# EAGLE library part 5747846 (library Connector_D-Sub)
D-SUB, 25POS, RCPT, R/A SLDR Datasheet <https://www.te.com/commerce/DocumentDelivery/DDEController?Action=showdoc&DocId=Catalog+Section%7F82068_AMPLIMITE_Right-Angle_Posted_Conn%7F0412%7Fpdf%7FEnglish%7FENG_CS_82068_AMPLIMITE_Right-Angle_Posted_Conn_0412.pdf%7F5747846-4> Drawing <https://www.te.com/commerce/DocumentDelivery/DDEController?Action=showdoc&DocId=Customer+Drawing%7F5747846%7FP%7Fpdf%7FEnglish%7FENG_CD_5747846_P.pdf%7F5747846-4>
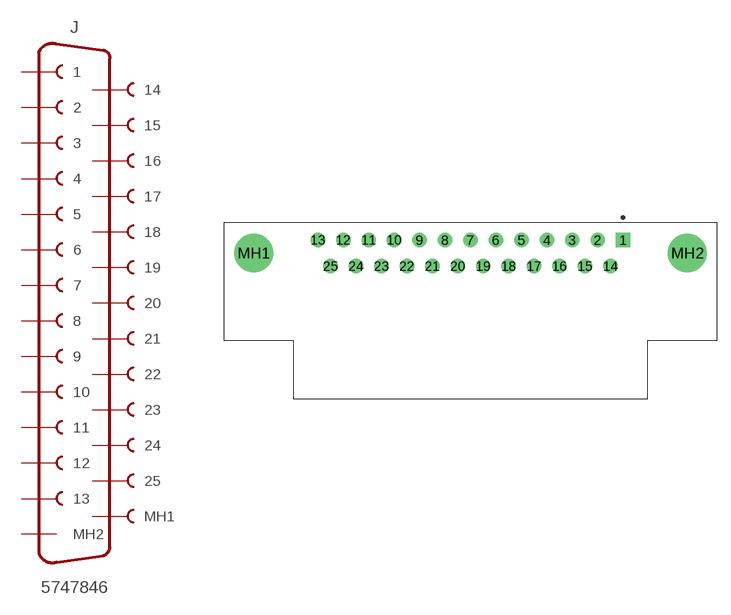
[diagram p7: symbol with the pads of 5747846-4 ; footprint 5747846-4 ]

Designator prefix J

## 5747846 (CATEGORY: Connector; DESCRIPTION: 25 Position D-Sub Receptacle, Female Sockets Connector; GENDER: Female; MANUFACTURER: TE Connectivity; MPN: 5747846-4; OPERATING_TEMP: -55°C to +105 °C; PART_STATUS: ACTIVE; ROHS_COMPLIANT: RoHS Compliant; SERIES: AMPLIMITE HD-20; SUB-CATEGORY: D-SUB; TYPE: R/A; VALUE: D-SUB-RCPT-25P)  [5747846-4 ]
1  1  pas
2  2  pas
3  3  pas
4  4  pas
5  5  pas
6  6  pas
7  7  pas
8  8  pas
9  9  pas
10  10  pas
11  11  pas
12  12  pas
13  13  pas
14  14  pas
15  15  pas
16  16  pas
17  17  pas
18  18  pas
19  19  pas
20  20  pas
21  21  pas
22  22  pas
23  23  pas
24  24  pas
25  25  pas
MH1  MH2  sup
MH2  MH1  sup

## Footprint 5747846-4  (pad centres in mm)
drill 1.041 square: 1 0,0
drill 1.041: 2 -2.76,0; 3 -5.52,0; 4 -8.28,0; 5 -11.04,0; 6 -13.8,0; 7 -16.56,0; 8 -19.32,0; 9 -22.08,0; 10 -24.84,0; 11 -27.6,0; 12 -30.36,0; 13 -33.12,0; 14 -1.379,-2.845; 15 -4.14,-2.845; 16 -6.9,-2.845; 17 -9.66,-2.845; 18 -12.42,-2.845; 19 -15.18,-2.845; 20 -17.94,-2.845; 21 -20.7,-2.845; 22 -23.46,-2.845; 23 -26.22,-2.845; 24 -28.98,-2.845; 25 -31.74,-2.845
drill 3.175: MH1 -40.081,-1.422; MH2 6.96,-1.422